# Altium footprint library Class.PcbLib: 36 footprints (part 3 of 3)
Each footprint in its own frame and in the unit in brackets; x right, y up, seen from the top. Pads: shape width x height; smd on the part's side, far side on the other; paste and mask are expansions set on the pad; w line width, h text height; cw(c..) or ccw(c..) is an arc to the next point about the centre after c.
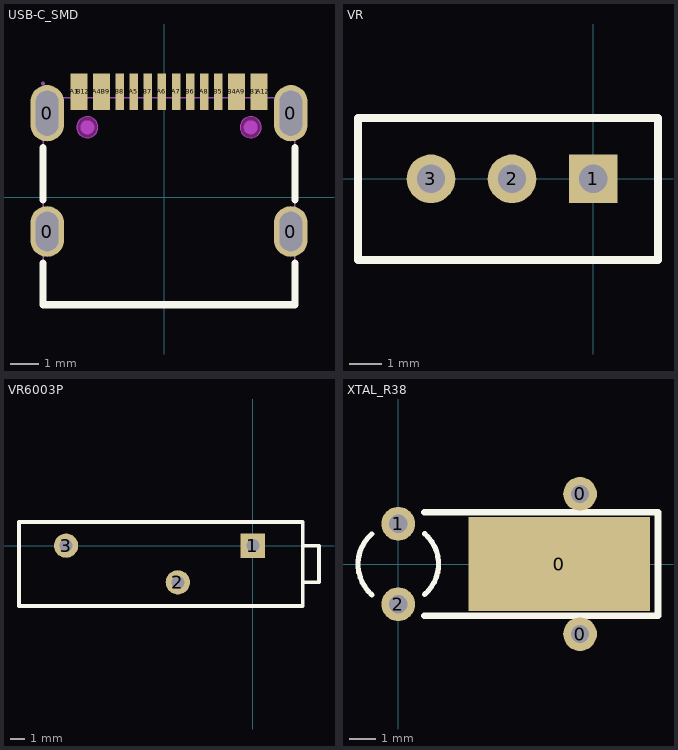
[diagram p2: the footprints below, top view; thin cyan lines are the x and y axes]

## USB-C_SMD [mm]
pads (20):
  oval 1.2x1.8 hole 0.8 slot 1.4 at 90 deg mask+0.051: 0(-4.153,-1.21) 0(4.497,-1.21)
  oval 1.2x2 hole 0.8 slot 1.6 at 90 deg mask+0.051: 0(-4.153,2.99) 0(4.497,2.99)
  rect 0.3x1.3 smd mask+0.051: A1(-3.178,3.758) A4(-2.378,3.758) A5(-1.078,3.758) A6(-0.078,3.758) A7(0.422,3.758) A8(1.422,3.758) A9(2.722,3.758) A12(3.522,3.758) B1(3.222,3.758) B4(2.422,3.758) B5(1.922,3.758) B6(0.922,3.758) B7(-0.578,3.758) B8(-1.578,3.758) B9(-2.078,3.758) B12(-2.878,3.758)
Top Overlay:
  lines w0.254: -4.297,-2.329 -4.297,-3.81 4.643,-3.81 4.643,-2.328 ; -4.297,-0.092 -4.297,1.771 ; 4.643,-0.092 4.643,1.772
Top Paste:
  drawing of 16 lines, arcs and shapes, not listed
Keep-Out Layer:
  board cut-out: 3.447,2.49 3.447,2.564 3.39,2.702 3.284,2.808 3.147,2.865 2.997,2.865 2.86,2.808 2.754,2.702 2.697,2.564 2.697,2.49 2.697,2.415 2.754,2.277 2.86,2.172 2.997,2.115 3.147,2.115 3.284,2.172 3.39,2.277 3.447,2.415
  board cut-out: -2.353,2.49 -2.353,2.564 -2.41,2.702 -2.515,2.808 -2.653,2.865 -2.802,2.865 -2.94,2.808 -3.046,2.702 -3.103,2.564 -3.103,2.49 -3.103,2.415 -3.046,2.277 -2.94,2.172 -2.802,2.115 -2.653,2.115 -2.515,2.172 -2.41,2.277 -2.353,2.415
Mechanical 1:
  circle w0.005: c3.072,2.49 r0.375
  circle w0.005: c-2.728,2.49 r0.375
Mechanical 6:
  circle w0.25: c-2.728,2.49 r0.125
  circle w0.25: c3.072,2.49 r0.125
Mechanical 15:
  region: -3.238,4.04 -3.038,4.04 -3.038,3.34 -3.238,3.34
  region: -3.038,4.04 -2.838,4.04 -2.838,3.34 -3.038,3.34
  region: -2.438,4.04 -2.238,4.04 -2.238,3.34 -2.438,3.34
  region: -2.238,4.04 -2.038,4.04 -2.038,3.34 -2.238,3.34
  region: 2.382,4.04 2.582,4.04 2.582,3.34 2.382,3.34
  region: 2.582,4.04 2.782,4.04 2.782,3.34 2.582,3.34
  region: -1.678,4.04 -1.478,4.04 -1.478,3.34 -1.678,3.34
  region: -1.178,4.04 -0.978,4.04 -0.978,3.34 -1.178,3.34
  region: -0.678,4.04 -0.478,4.04 -0.478,3.34 -0.678,3.34
  region: -0.178,4.04 0.022,4.04 0.022,3.34 -0.178,3.34
  region: 0.322,4.04 0.522,4.04 0.522,3.34 0.322,3.34
  region: 0.822,4.04 1.022,4.04 1.022,3.34 0.822,3.34
  region: 1.322,4.04 1.522,4.04 1.522,3.34 1.322,3.34
  region: 1.822,4.04 2.022,4.04 2.022,3.34 1.822,3.34
  region: 3.182,4.04 3.382,4.04 3.382,3.34 3.182,3.34
  region: 3.382,4.04 3.582,4.04 3.582,3.34 3.382,3.34
  region: -4.303,3.54 -4.003,3.54 -4.003,2.44 -4.303,2.44
  region: 4.347,3.54 4.647,3.54 4.647,2.44 4.347,2.44
  region: 4.347,-0.81 4.647,-0.81 4.647,-1.61 4.347,-1.61
  region: -4.303,-0.81 -4.003,-0.81 -4.003,-1.61 -4.303,-1.61
  region: -4.243,4.04 -4.243,4.065 -4.278,4.1 -4.328,4.1 -4.363,4.065 -4.363,4.04 -4.363,4.015 -4.328,3.98 -4.278,3.98 -4.243,4.015
  lines w0.051: -4.298,-3.81 4.642,-3.81 4.642,3.54 -4.298,3.54 -4.298,-3.81

## VR [mil] "VR"
height 196.85
pads (3):
  rect 60x60 hole 35: 1(0,0)
  round 60 hole 35: 2(-100,0) 3(-200,0)
Top Overlay:
  lines w10: -290,-100 80,-100 80,75 -290,75 -290,-100

## VR6003P [mil]
height 255.91
pads (3):
  rect 65x65 hole 35: 1(0,0)
  round 65 hole 35: 2(-200.79,-98.43) 3(-500,0)
Top Overlay:
  lines w10: 133.86,-98.43 177.17,-98.43 177.17,0 133.86,0 ; -625.98,-161.42 -625.98,62.99 133.86,62.99 133.86,-161.42 -625.98,-161.42

## XTAL_R38 [mm] "Crystal, Thru-Hole; 2 Leads; Body 3.1 x 8.2 mm (Dia.xH)"
height 8.2
pads (5):
  rect 7x3.6 smd: 0(6.2,0)
  round 1.3 hole 0.7: 0(7,-2.7) 0(7,2.7) 1(0,1.55) 2(0,-1.55)
Top Overlay:
  lines w0.2: -1.022,1.155 ccw(c0,-0.01) -1.006,-1.189 ; 1.006,-1.179 ccw(c0,0) 1.022,1.165
  lines w0.254: 1,-2 10,-2 10,2 1,2